# Altium schematic symbol library DCT_V2.SchLib: 2 symbols
Pins are listed as number, name and electrical type; pins without a type are passive.

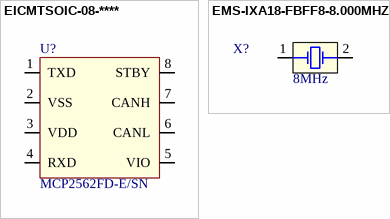
[diagram p0: symbols EICMTSOIC-08-**** to EMS-IXA18-FBFF8-8.000MHZ]

## EICMTSOIC-08-****
designator U?, comment value MCP2562FD-E/SN  (hidden comment: IC TRANSCEIVER 1/1 8SOIC)
Internal Part Number: EICMTSOIC-08-****; Manufacturer: Microchip Technology; Vendor Part Number: MCP2562FD-E/SN-ND; 1st Auxiliary Field: 4.5V ~ 5.5V; 2nd Auxiliary Field: 8Mbps; 3rd Auxiliary Field: ROHS3 Compliant; 4th Auxiliary Field: AEC-Q100 Grade 0; Temp Coefficient: -40°C ~ 125°C; Vendor: Digi-Key; Component Height: 1.75mm; Part Type: IC TRANSCEIVER 1/1 8SOIC; Manufacturer Part Number: MCP2562FD-E/SN
footprint SOIC127P600X175-8N (Footprint not found)
pins: 1 TXD, 2 VSS, 3 VDD, 4 RXD, 5 VIO, 6 CANL, 7 CANH, 8 STBY

## EMS-IXA18-FBFF8-8.000MHZ
designator X?, comment 1st Auxiliary Field: 8MHz  (hidden comment: CRYSTAL 8.0000MHZ 8PF SMD)
Internal Part Number: EMS-IXA18-FBFF8-8.000MHZ; Manufacturer: ILSI; Vendor Part Number: 2780-IXA18-FBFF8-8.000MHZCT-ND; Manufacturer Part Number: IXA18-FBFF8-8.000MHZ; 2nd Auxiliary Field: ±50ppm; 3rd Auxiliary Field: RoHS Compliant; 4th Auxiliary Field: AEC-Q200; Component Height (mm): 1.10mm; Temp Co: -40°C ~ 125°C; Vendor Name: Digi-Key; Value: IXA18-FBFF8-8.000MHZ; Part Type: CRYSTAL 8.0000MHZ 8PF SMD
footprint XTAL500X320X110
pins: 1, 2